# Altium footprint library Control.PcbLib: 3 footprints
Each footprint in its own frame and in the unit in brackets; x right, y up, seen from the top. Pads: shape width x height; smd on the part's side, far side on the other; paste and mask are expansions set on the pad; w line width, h text height; cw(c..) or ccw(c..) is an arc to the next point about the centre after c.
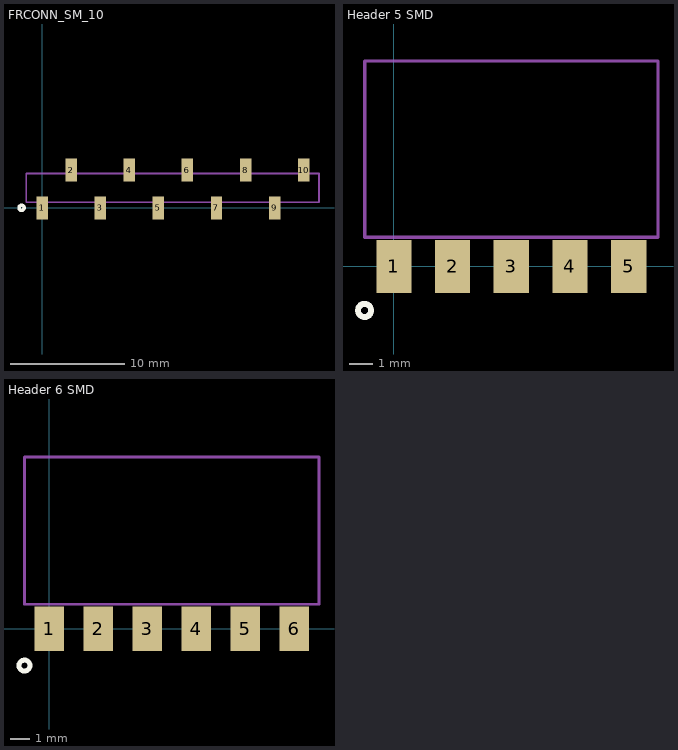
[diagram p0: the footprints below, top view; thin cyan lines are the x and y axes]

## FRCONN_SM_10 [mm]
pads (10):
  rect 1x2 smd: 1(0,0) 2(2.54,3.3) 3(5.08,0) 4(7.62,3.3) 5(10.16,0) 6(12.7,3.3) 7(15.24,0) 8(17.78,3.3) 9(20.32,0) 10(22.86,3.3)
Top Overlay:
  circle w0.3: c-1.8,0 r0.224
Mechanical 1:
  lines w0.15: -1.4,0.5 24.2,0.5 24.2,3 -1.4,3 -1.4,0.5

## Header 5 SMD [mil]
pads (5):
  rect 60x90.16 smd: 1(0,0) 2(100,0) 3(200,0) 4(300,0) 5(400,0)
Top Overlay:
  circle w10: c-50,-75 r11.18
Mechanical 1:
  lines w5.91: -50,50 -50,350 450,350 450,50 -50,50

## Header 6 SMD [mil]
pads (6):
  rect 60x90.16 smd: 1(0,0) 2(100,0) 3(200,0) 4(300,0) 5(400,0) 6(500,0)
Top Overlay:
  circle w10: c-50,-75 r11.18
Mechanical 1:
  lines w5.91: -50,50 -50,350 550,350 550,50 -50,50